# EAGLE library part SN74LV08APWR (library CP-IC)
Quad Two Input AND
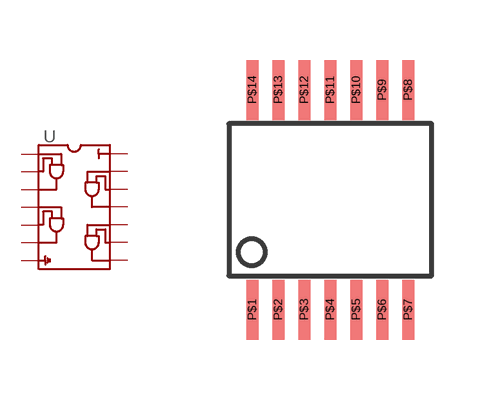
[diagram p0: symbol with the pads of TSSOP-14; footprint TSSOP-14]

Designator prefix U

## SN74LV08APWR  [TSSOP-14]
P$1  P$1
P$2  P$2
P$3  P$3
P$4  P$4
P$5  P$5
P$6  P$6
P$7  P$7
P$8  P$8
P$9  P$9
P$10  P$10
P$11  P$11
P$12  P$12
P$13  P$13
P$14  P$14

## Footprint TSSOP-14 (pad centres in mm)
smd 0.3 x 1.5: P$1 -1.95,-2.75; P$2 -1.3,-2.75; P$3 -0.65,-2.75; P$4 0,-2.75; P$5 0.65,-2.75; P$6 1.3,-2.75; P$7 1.95,-2.75; P$8 1.95,2.75; P$9 1.3,2.75; P$10 0.65,2.75; P$11 0,2.75; P$12 -0.65,2.75; P$13 -1.3,2.75; P$14 -1.95,2.75